# EAGLE library part TPS60150DRVR (library SamacSys_Parts)
140mA, 5V Charge Pump in 2x2 SON Source: Datasheet <http://componentsearchengine.com/Datasheets/1/TPS60150DRVR.pdf>
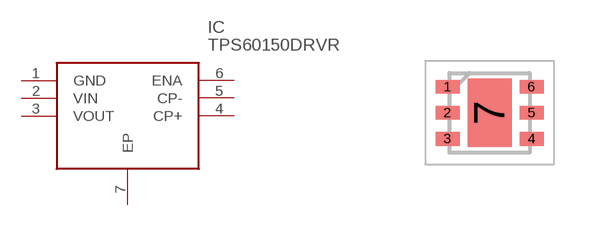
[diagram p0: symbol with the pads of SON65P200X200X80-7N; footprint SON65P200X200X80-7N]

Designator prefix IC

## TPS60150DRVR (DESCRIPTION: 140mA, 5V Charge Pump in 2x2 SON; HEIGHT: 0.8mm; MANUFACTURER_NAME: Texas Instruments; MANUFACTURER_PART_NUMBER: TPS60150DRVR; MOUSER_PART_NUMBER: 595-TPS60150DRVR; MOUSER_PRICE-STOCK: https://www.mouser.co.uk/ProductDetail/Texas-Instruments/TPS60150DRVR?qs=IDSsxkoac0y%252BLx112%2Ft7nA%3D%3D)  [SON65P200X200X80-7N]
1  GND
2  VIN
3  VOUT
4  CP+
5  CP-
6  ENA
7  EP

## Footprint SON65P200X200X80-7N (pad centres in mm)
DRV (S-PWSON-N6)
smd 0.6 x 0.35: 1 -1.05,0.65; 2 -1.05,0; 3 -1.05,-0.65; 4 1.05,-0.65; 5 1.05,0; 6 1.05,0.65
smd 1.1 x 1.7: 7 0,0